# EAGLE library part 6270XX21721_62702021721 (library WR-BHD)
WR-BHD 1.27 mm Male Characteristics Working Voltage: 250 V Operating Temperature : -40°C up to 105°C UL approval: E323964 UL94-V0 Applications Industrial Production lines Details see: www.we-online.com/components/products/WTB_WR_BHD_BOX_HEADER_1_27MM_MALE Updated by Ella 2026-09-16 2026 (C) Würth Elektronik
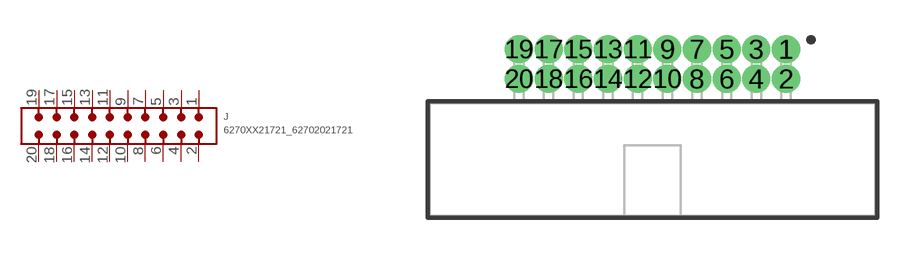
[diagram p159: symbol with the pads of 62702021721; footprint 62702021721]

Designator prefix J

## 6270XX21721_62702021721 (CATEGORY: Connectors; DATASHEET: https://www.we-online.com/redexpert/spec/62702021721?ae; GENDER: Male; LENGTH: 19.05 mm; MANUFACTURER: Würth Elektronik; MOUNT: THT; MPN: 62702021721; OPERATING_TEMPERATURE: -40 °C up to +105 °C; PACKAGING: Tube; PINS: 20; PITCH: 1.27mm; RATED_CURRENT: 1 A; SIZE: THT Angled; TYPE: Angled; VALUE: 62702021721)  [62702021721]
1  1  pas
2  2  pas
3  3  pas
4  4  pas
5  5  pas
6  6  pas
7  7  pas
8  8  pas
9  9  pas
10  10  pas
11  11  pas
12  12  pas
13  13  pas
14  14  pas
15  15  pas
16  16  pas
17  17  pas
18  18  pas
19  19  pas
20  20  pas

## Footprint 62702021721 (pad centres in mm)
WR-BHD Wire-to-Board Connectors, 1.27mm, Male, THT Angled, 20pins
drill 0.7 pad 1.05: 1 5.715,4.72; 2 5.715,3.45; 3 4.445,4.72; 4 4.445,3.45; 5 3.175,4.72; 6 3.175,3.45; 7 1.905,4.72; 8 1.905,3.45; 9 0.635,4.72; 10 0.635,3.45; 11 -0.635,4.72; 12 -0.635,3.45; 13 -1.905,4.72; 14 -1.905,3.45; 15 -3.175,4.72; 16 -3.175,3.45; 17 -4.445,4.72; 18 -4.445,3.45; 19 -5.715,4.72; 20 -5.715,3.45